# Altium schematic symbol library lib_pomona.SchLib: 2 symbols
Pins are listed as number, name and electrical type; pins without a type are passive.

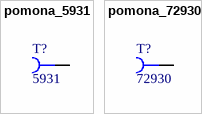
[diagram p0: symbols pomona_5931 to pomona_72930]

## pomona_5931
designator T?, comment 5931
Model 5931 Panel Mount 4mm Banana Jack For Sheathed Plugs; ComponentLink1Description: Datasheet; ComponentLink1URL: https://www.pomonaelectronics.com/file/17889/download
footprint pomona_5931
pins: 1

## pomona_72930
designator T?, comment 72930
Panel Mount IEC 61010 4mm (0.16in) Jack for Sheathed Plugs; ComponentLink1Description: Datasheet; ComponentLink1URL: https://www.pomonaelectronics.com/file/17889/download
footprint pomona_72930
pins: 1